# Altium schematic symbol library ANTENNA.SchLib: 1 symbol
Pins are listed as number, name and electrical type; pins without a type are passive.

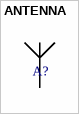
[diagram p0: symbol ANTENNA]

## ANTENNA
designator A?  (value not drawn)
footprint ANTENNA
pins: 1, 2